# Altium footprint library Nordic.PcbLib: 3 footprints
Each footprint in its own frame and in the unit in brackets; x right, y up, seen from the top. Pads: shape width x height; smd on the part's side, far side on the other; paste and mask are expansions set on the pad; w line width, h text height; cw(c..) or ccw(c..) is an arc to the next point about the centre after c.
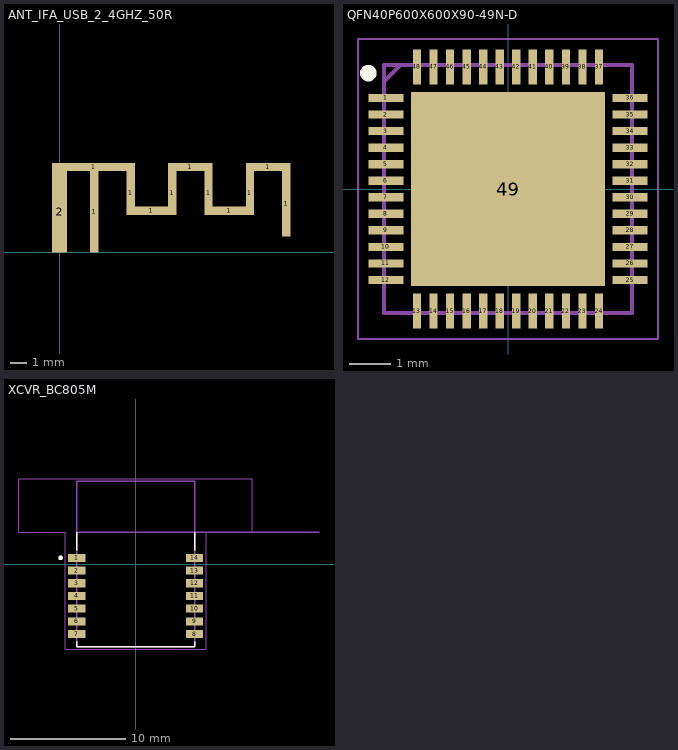
[diagram p0: the footprints below, top view; thin cyan lines are the x and y axes]

## ANT_IFA_USB_2_4GHZ_50R [mm]
pads (12):
  rect 5x0.5 smd paste-2539.97 mask+0.102: 1(2.05,5.15)
  rect 0.5x4.9 smd paste-2539.97 mask+0.102: 1(2.1,2.45)
  rect 0.5x2.64 smd paste-2539.97 mask+0.102: 1(4.3,3.58) 1(6.8,3.58) 1(9,3.58) 1(11.5,3.58)
  rect 2x0.5 smd paste-2539.97 mask+0.102: 1(5.55,2.51) 1(10.25,2.51)
  rect 2.7x0.5 smd paste-2539.97 mask+0.102: 1(7.9,5.15) 1(12.6,5.15)
  rect 0.5x3.94 smd paste-2539.97 mask+0.102: 1(13.7,2.93)
  rect 0.9x4.9 smd paste-2539.97 mask+0.102: 2(0,2.45)

## QFN40P600X600X90-49N-D [mm]
pads (49):
  rect 0.85x0.2 smd: 1(-2.95,2.2) 2(-2.95,1.8) 3(-2.95,1.4) 4(-2.95,1) 5(-2.95,0.6) 6(-2.95,0.2) 7(-2.95,-0.2) 8(-2.95,-0.6) 9(-2.95,-1) 10(-2.95,-1.4) 11(-2.95,-1.8) 12(-2.95,-2.2) 25(2.95,-2.2) 26(2.95,-1.8) 27(2.95,-1.4) 28(2.95,-1) 29(2.95,-0.6) 30(2.95,-0.2) 31(2.95,0.2) 32(2.95,0.6) 33(2.95,1) 34(2.95,1.4) 35(2.95,1.8) 36(2.95,2.2)
  rect 0.2x0.85 smd: 13(-2.2,-2.95) 14(-1.8,-2.95) 15(-1.4,-2.95) 16(-1,-2.95) 17(-0.6,-2.95) 18(-0.2,-2.95) 19(0.2,-2.95) 20(0.6,-2.95) 21(1,-2.95) 22(1.4,-2.95) 23(1.8,-2.95) 24(2.2,-2.95) 37(2.2,2.95) 38(1.8,2.95) 39(1.4,2.95) 40(1,2.95) 41(0.6,2.95) 42(0.2,2.95) 43(-0.2,2.95) 44(-0.6,2.95) 45(-1,2.95) 46(-1.4,2.95) 47(-1.8,2.95) 48(-2.2,2.95)
  rect 4.7x4.7 smd: 49(0,0)
Top Overlay:
  circle w0.2: c-3.375,2.8 r0.1
Mechanical 13:
  lines w0.1: -3,2.6 -2.6,3 ; -3,-3 -3,3 3,3 3,-3 -3,-3
Mechanical 15:
  lines w0.05: -3.625,-3.625 -3.625,3.625 3.625,3.625 3.625,-3.625 -3.625,-3.625
3D body "nRF52832-QFAA-R.stp": height 0.9, standoff 0, extent -3.05,-3.05 3.05,3.05

## XCVR_BC805M [mm]
height 1.9
pads (14):
  rect 1.5x0.7 smd: 1(-5.1,0.53) 2(-5.1,-0.57) 3(-5.1,-1.67) 4(-5.1,-2.77) 5(-5.1,-3.87) 6(-5.1,-4.97) 7(-5.1,-6.07) 8(5.1,-6.07) 9(5.1,-4.97) 10(5.1,-3.87) 11(5.1,-2.77) 12(5.1,-1.67) 13(5.1,-0.57) 14(5.1,0.53)
Top Overlay:
  circle w0.2: c-6.5,0.53 r0.1
  lines w0.127: -5.1,-6.74 -5.1,-7.15 5.1,-7.15 5.1,-6.74 ; -5.1,1.2 -5.1,2.75 ; 5.1,1.2 5.1,2.75
Mechanical 13:
  circle w0.2: c-6.5,0.53 r0.1
  lines w0.127: 15.875,2.75 -5.1,2.75 ; -5.1,2.75 -5.1,-7.15 5.1,-7.15 5.1,7.15 -5.1,7.15 -5.1,2.75
  text "PCB EDGE" at 5.3,2.925 h1.27
Mechanical 15:
  lines w0.05: -10.1,2.75 -10.1,7.4 10.1,7.4 10.1,2.75 6.1,2.75 6.1,-7.4 -6.1,-7.4 -6.1,2.75 -10.1,2.75
3D body "step_temp.STEP": height 1.9, standoff 0, extent -5.1,-7.15 5.1,7.15